# Altium schematic symbol library LM22677TJE-5.0.SchLib: 1 symbol
Pins are listed as number, name and electrical type; pins without a type are passive.

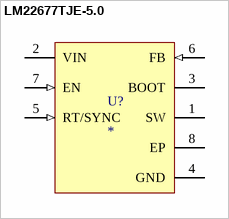
[diagram p0: symbol LM22677TJE-5.0]

## LM22677TJE-5.0
designator U?
5A SIMPLE SWITCHER®, Step-Down Voltage Regulator with Synchronization or Adjustable Switching Frequency, 7-pin TO-263 Thin, Pb-Free
pins: 1 SW (power), 2 VIN (power), 3 BOOT, 4 GND (power), 5 RT/SYNC (in), 6 FB (in), 7 EN (in), 8 EP (power)